# EAGLE library part MIC5209 (library paparazzi)
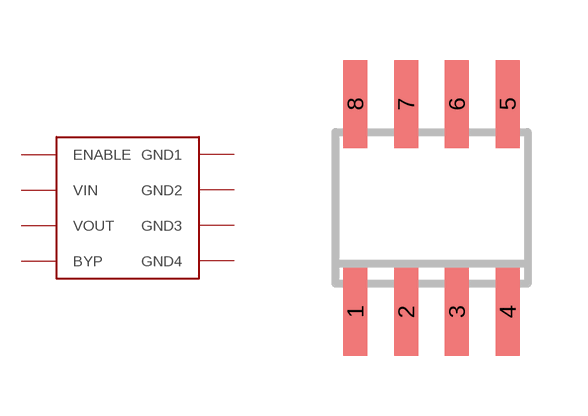
[diagram p47: symbol with the pads of SOIC8; footprint SOIC8]

Designator prefix -

## MIC5209  [SOIC8]
1  ENABLE
2  VIN
3  VOUT
4  BYP
5  GND4
6  GND3
7  GND2
8  GND1

## Footprint SOIC8 (pad centres in mm)
Small Outline IC
smd 0.6 x 2.2: 1 -1.905,-2.6; 2 -0.635,-2.6; 3 0.635,-2.6; 4 1.905,-2.6; 5 1.905,2.6; 6 0.635,2.6; 7 -0.635,2.6; 8 -1.905,2.6